# EAGLE library part ADL5801 (library VNA)
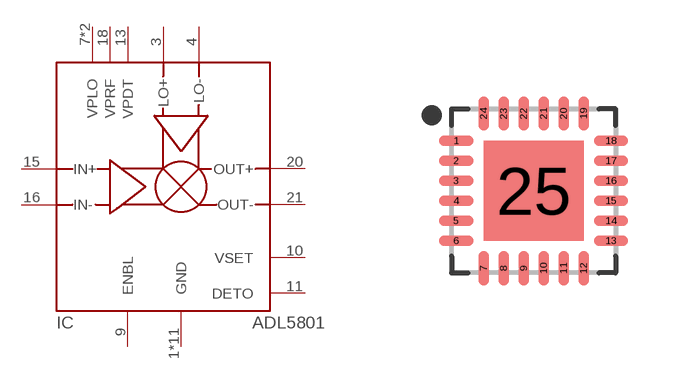
[diagram p17: symbol with the pads of QFN50P400X400X100-25T250N; footprint QFN50P400X400X100-25T250N]

Designator prefix IC

## ADL5801  [QFN50P400X400X100-25T250N]
1  GND
2  GND
3  LO+
4  LO-
5  GND
6  GND
7  VPLO
8  GND
9  ENBL
10  VSET
11  DETO
12  GND
13  VPDT
14  GND
15  IN+
16  IN-
17  GND
18  VPRF
19  GND
20  OUT+
21  OUT-
23  GND
24  VPLO
25  GND

## Footprint QFN50P400X400X100-25T250N (pad centres in mm)
24-QFN, 0.50 mm pitch, 4.00 X 4.00 X 1.00 mm body, 2.50 X 2.50 mm thermal pad 24-pin QFN package with 0.50 mm pitch with body size 4.00 X 4.00 X 1.00 mm and thermal pad size 2.50 X 2.50 mm
smd 0.86 x 0.264: 1 -1.935,1.25; 2 -1.935,0.75; 3 -1.935,0.25; 4 -1.935,-0.25; 5 -1.935,-0.75; 6 -1.935,-1.25; 13 1.935,-1.25; 14 1.935,-0.75; 15 1.935,-0.25; 16 1.935,0.25; 17 1.935,0.75; 18 1.935,1.25
smd 0.264 x 0.86: 7 -1.25,-1.935; 8 -0.75,-1.935; 9 -0.25,-1.935; 10 0.25,-1.935; 11 0.75,-1.935; 12 1.25,-1.935; 19 1.25,1.935; 20 0.75,1.935; 21 0.25,1.935; 22 -0.25,1.935; 23 -0.75,1.935; 24 -1.25,1.935
smd 2.5 x 2.5: 25 0,0